# Altium integrated library Capacitor - Ceramic - Sumsung.IntLib: 1421 symbols (part 10 of 22)
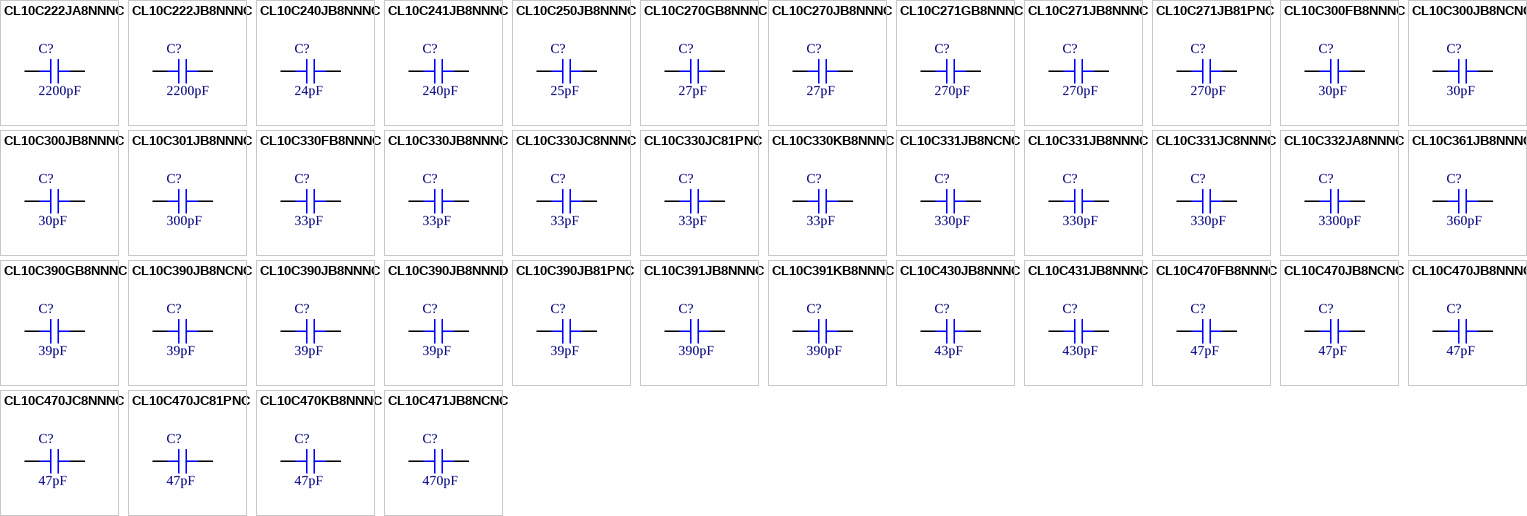
[diagram p44: symbols CL10C222JA8NNNC to CL10C471JB8NCNC]

## CL10C222JA8NNNC
designator C?, comment 2200pF
CAP CER 2200PF 25V NP0 0603; Part Number: CL10C222JA8NNNC; Manufacturer: Samsung Electro-Mechanics America, Inc.; TemperatureRange: -55C ~ 125C; TemperatureCoefficient: C0G, NP0; Tolerance: 5%; Value: 2200pF; PartId: 5563; Supplier 1: Digi-Key; Supplier Part Number 1: 1276-2240-2-ND; ComponentLink1Description: Datasheet; ComponentLink1URL: http://www.samsungsem.com/kr/support/product-search/mlcc/CL10C222JA8NNNC.jsp; ComponentLink2Description: Digi-Key listing; ComponentLink2URL: http://digikey.com/product-detail/en/CL10C222JA8NNNC/1276-2240-2-ND/3887898; Voltage: 25V; Price: 0.0267; Type: -; Device Package: 0603 (1608 Metric)
footprint CAP 0603/1608
pins: 1, 2

## CL10C222JB8NNNC
designator C?, comment 2200pF
CAP CER 2200PF 50V NP0 0603; Part Number: CL10C222JB8NNNC; Manufacturer: Samsung Electro-Mechanics America, Inc.; TemperatureRange: -55C ~ 125C; TemperatureCoefficient: C0G, NP0; Tolerance: 5%; Value: 2200pF; PartId: 13689; Supplier 1: Digi-Key; Supplier Part Number 1: 1276-1760-2-ND; ComponentLink1Description: Datasheet; ComponentLink1URL: http://www.samsungsem.com/kr/support/product-search/mlcc/CL10C222JB8NNNC.jsp; ComponentLink2Description: Digi-Key Listing; ComponentLink2URL: https://www.digikey.com/product-detail/en/samsung-electro-mechanics-america-inc/CL10C222JB8NNNC/1276-1760-2-ND/3887418; Voltage: 50V; Price: 0.018; Device Package: 0603 (1608 Metric)
footprint CAP 0603/1608
pins: 1, 2

## CL10C240JB8NNNC
designator C?, comment 24pF
CAP CER 24PF 50V NP0 0603; Part Number: CL10C240JB8NNNC; Manufacturer: Samsung Electro-Mechanics America, Inc.; TemperatureRange: -55C ~ 125C; TemperatureCoefficient: C0G, NP0; Tolerance: 5%; Value: 24pF; PartId: 5380; Supplier 1: Digi-Key; Supplier Part Number 1: 1276-1761-2-ND; ComponentLink1Description: Datasheet; ComponentLink1URL: http://www.samsungsem.com/kr/support/product-search/mlcc/CL10C240JB8NNNC.jsp; ComponentLink2Description: Digi-Key listing; ComponentLink2URL: http://digikey.com/product-detail/en/CL10C240JB8NNNC/1276-1761-2-ND/3887419; Voltage: 50V; Price: 0.0102; Type: -; Device Package: 0603 (1608 Metric)
footprint CAP 0603/1608
pins: 1, 2

## CL10C241JB8NNNC
designator C?, comment 240pF
CAP CER 240PF 50V NP0 0603; Part Number: CL10C241JB8NNNC; Manufacturer: Samsung Electro-Mechanics America, Inc.; TemperatureRange: -55C ~ 125C; TemperatureCoefficient: C0G, NP0; Tolerance: 5%; Value: 240pF; PartId: 5463; Supplier 1: Digi-Key; Supplier Part Number 1: 1276-2243-2-ND; ComponentLink1Description: Datasheet; ComponentLink1URL: http://www.samsungsem.com/kr/support/product-search/mlcc/CL10C241JB8NNNC.jsp; ComponentLink2Description: Digi-Key listing; ComponentLink2URL: http://digikey.com/product-detail/en/CL10C241JB8NNNC/1276-2243-2-ND/3887901; Voltage: 50V; Price: 0.0163; Type: -; Device Package: 0603 (1608 Metric)
footprint CAP 0603/1608
pins: 1, 2

## CL10C250JB8NNNC
designator C?, comment 25pF
CAP CER 25PF 50V NP0 0603; Part Number: CL10C250JB8NNNC; Manufacturer: Samsung Electro-Mechanics America, Inc.; TemperatureRange: -55C ~ 125C; TemperatureCoefficient: C0G, NP0; Tolerance: 5%; Value: 25pF; PartId: 13481; Supplier 1: Digi-Key; Supplier Part Number 1: 1276-2244-2-ND; ComponentLink1Description: Datasheet; ComponentLink1URL: http://www.samsungsem.com/kr/support/product-search/mlcc/CL10C250JB8NNNC.jsp; ComponentLink2Description: Digi-Key Listing; ComponentLink2URL: https://www.digikey.com/product-detail/en/samsung-electro-mechanics-america-inc/CL10C250JB8NNNC/1276-2244-2-ND/3887902; Voltage: 50V; Price: 0.0023; Device Package: 0603 (1608 Metric)
footprint CAP 0603/1608
pins: 1, 2

## CL10C270GB8NNNC
designator C?, comment 27pF
CAP CER 27PF 50V NP0 0603; Part Number: CL10C270GB8NNNC; Manufacturer: Samsung Electro-Mechanics America, Inc.; TemperatureRange: -55C ~ 125C; TemperatureCoefficient: C0G, NP0; Tolerance: 2%; Value: 27pF; PartId: 5569; Supplier 1: Digi-Key; Supplier Part Number 1: 1276-2246-2-ND; ComponentLink1Description: Datasheet; ComponentLink1URL: http://www.samsungsem.com/kr/support/product-search/mlcc/CL10C270GB8NNNC.jsp; ComponentLink2Description: Digi-Key listing; ComponentLink2URL: http://digikey.com/product-detail/en/CL10C270GB8NNNC/1276-2246-2-ND/3887904; Voltage: 50V; Price: 0.0278; Type: -; Device Package: 0603 (1608 Metric)
footprint CAP 0603/1608
pins: 1, 2

## CL10C270JB8NNNC
designator C?, comment 27pF
CAP CER 27PF 50V NP0 0603; Part Number: CL10C270JB8NNNC; Manufacturer: Samsung Electro-Mechanics America, Inc.; TemperatureRange: -55C ~ 125C; TemperatureCoefficient: C0G, NP0; Tolerance: 5%; Value: 27pF; PartId: 5302; Supplier 1: Digi-Key; Supplier Part Number 1: 1276-1086-2-ND; ComponentLink1Description: Datasheet; ComponentLink1URL: http://www.samsungsem.com/kr/support/product-search/mlcc/CL10C270JB8NNNC.jsp; ComponentLink2Description: Digi-Key listing; ComponentLink2URL: http://digikey.com/product-detail/en/CL10C270JB8NNNC/1276-1086-2-ND/3886744; Voltage: 50V; Price: 0.0077; Type: -; Device Package: 0603 (1608 Metric)
footprint CAP 0603/1608
pins: 1, 2

## CL10C271GB8NNNC
designator C?, comment 270pF
CAP CER 270PF 50V NP0 0603; Part Number: CL10C271GB8NNNC; Manufacturer: Samsung Electro-Mechanics America, Inc.; TemperatureRange: -55C ~ 125C; TemperatureCoefficient: C0G, NP0; Tolerance: 2%; Value: 270pF; PartId: 5629; Supplier 1: Digi-Key; Supplier Part Number 1: 1276-2252-2-ND; ComponentLink1Description: Datasheet; ComponentLink1URL: http://www.samsungsem.com/kr/support/product-search/mlcc/CL10C271GB8NNNC.jsp; ComponentLink2Description: Digi-Key listing; ComponentLink2URL: http://digikey.com/product-detail/en/CL10C271GB8NNNC/1276-2252-2-ND/3887910; Voltage: 50V; Price: 0.039; Type: -; Device Package: 0603 (1608 Metric)
footprint CAP 0603/1608
pins: 1, 2

## CL10C271JB8NNNC
designator C?, comment 270pF
CAP CER 270PF 50V NP0 0603; Part Number: CL10C271JB8NNNC; Manufacturer: Samsung Electro-Mechanics America, Inc.; TemperatureRange: -55C ~ 125C; TemperatureCoefficient: C0G, NP0; Tolerance: 5%; Value: 270pF; PartId: 13205; Supplier 1: Digi-Key; Supplier Part Number 1: 1276-1256-2-ND; ComponentLink1Description: Datasheet; ComponentLink1URL: http://www.samsungsem.com/kr/support/product-search/mlcc/CL10C271JB8NNNC.jsp; ComponentLink2Description: Digi-Key Listing; ComponentLink2URL: https://www.digikey.com/product-detail/en/samsung-electro-mechanics-america-inc/CL10C271JB8NNNC/1276-1256-2-ND/3886914; Voltage: 50V; Price: 0.0092; Device Package: 0603 (1608 Metric)
footprint CAP 0603/1608
pins: 1, 2

## CL10C271JB81PNC
designator C?, comment 270pF
CAP CER 270PF 50V C0G/NP0 0603; Part Number: CL10C271JB81PNC; Manufacturer: Samsung Electro-Mechanics; TemperatureRange: -55C ~ 125C; TemperatureCoefficient: C0G, NP0; Tolerance: 5%; Value: 270pF; PartId: 30703; Supplier 1: Digi-Key; Supplier Part Number 1: 1276-7006-2-ND; ComponentLink1Description: Datasheet; ComponentLink1URL: http://www.samsungsem.com/kr/support/product-search/mlcc/CL10C271JB81PNC.jsp; ComponentLink2Description: Digi-Key Listing; ComponentLink2URL: https://www.digikey.com/product-detail/en/samsung-electro-mechanics/CL10C271JB81PNC/1276-7006-2-ND/7320511; Voltage: 50V; Price: 0; Device Package: 0603 (1608 Metric)
footprint CAP 0603/1608
pins: 1, 2

## CL10C300FB8NNNC
designator C?, comment 30pF
CAP CER 30PF 50V NP0 0603; Part Number: CL10C300FB8NNNC; Manufacturer: Samsung Electro-Mechanics America, Inc.; TemperatureRange: -55C ~ 125C; TemperatureCoefficient: C0G, NP0; Tolerance: 1%; Value: 30pF; PartId: 5496; Supplier 1: Digi-Key; Supplier Part Number 1: 1276-2259-2-ND; ComponentLink1Description: Datasheet; ComponentLink1URL: http://media.digikey.com/pdf/Data%20Sheets/Samsung%20PDFs/CL10C300FB8NNNC_Spec.pdf; ComponentLink2Description: Digi-Key listing; ComponentLink2URL: http://digikey.com/product-detail/en/CL10C300FB8NNNC/1276-2259-2-ND/3887917; Voltage: 50V; Price: 0.0204; Type: -; Device Package: 0603 (1608 Metric)
footprint CAP 0603/1608
pins: 1, 2

## CL10C300JB8NCNC
designator C?, comment 30pF
CAP CER 30PF 50V C0G/NP0 0603; Part Number: CL10C300JB8NCNC; Manufacturer: Samsung Electro-Mechanics; TemperatureRange: -55C ~ 125C; TemperatureCoefficient: C0G, NP0; Tolerance: 5%; Value: 30pF; PartId: 30213; Supplier 1: Digi-Key; Supplier Part Number 1: 1276-2260-2-ND; ComponentLink1Description: Datasheet; ComponentLink1URL: http://www.samsungsem.com/kr/support/product-search/mlcc/CL10C300JB8NCNC.jsp; ComponentLink2Description: Digi-Key Listing; ComponentLink2URL: https://www.digikey.com/product-detail/en/samsung-electro-mechanics/CL10C300JB8NCNC/1276-2260-2-ND/3887918; Voltage: 50V; Price: 0; Device Package: 0603 (1608 Metric)
footprint CAP 0603/1608
pins: 1, 2

## CL10C300JB8NNNC
designator C?, comment 30pF
CAP CER 30PF 50V NP0 0603; Part Number: CL10C300JB8NNNC; Manufacturer: Samsung Electro-Mechanics America, Inc.; TemperatureRange: -55C ~ 125C; TemperatureCoefficient: C0G, NP0; Tolerance: 5%; Value: 30pF; PartId: 5310; Supplier 1: Digi-Key; Supplier Part Number 1: 1276-1021-2-ND; ComponentLink1Description: Datasheet; ComponentLink1URL: http://www.samsungsem.com/kr/support/product-search/mlcc/CL10C300JB8NNNC.jsp; ComponentLink2Description: Digi-Key listing; ComponentLink2URL: http://digikey.com/product-detail/en/CL10C300JB8NNNC/1276-1021-2-ND/3886679; Voltage: 50V; Price: 0.0081; Type: -; Device Package: 0603 (1608 Metric)
footprint CAP 0603/1608
pins: 1, 2

## CL10C301JB8NNNC
designator C?, comment 300pF
CAP CER 300PF 50V NP0 0603; Part Number: CL10C301JB8NNNC; Manufacturer: Samsung Electro-Mechanics America, Inc.; TemperatureRange: -55C ~ 125C; TemperatureCoefficient: C0G, NP0; Tolerance: 5%; Value: 300pF; PartId: 5464; Supplier 1: Digi-Key; Supplier Part Number 1: 1276-2261-2-ND; ComponentLink1Description: Datasheet; ComponentLink1URL: http://www.samsungsem.com/kr/support/product-search/mlcc/CL10C301JB8NNNC.jsp; ComponentLink2Description: Digi-Key listing; ComponentLink2URL: http://digikey.com/product-detail/en/CL10C301JB8NNNC/1276-2261-2-ND/3887919; Voltage: 50V; Price: 0.0163; Type: -; Device Package: 0603 (1608 Metric)
footprint CAP 0603/1608
pins: 1, 2

## CL10C330FB8NNNC
designator C?, comment 33pF
CAP CER 33PF 50V NP0 0603; Part Number: CL10C330FB8NNNC; Manufacturer: Samsung Electro-Mechanics America, Inc.; TemperatureRange: -55C ~ 125C; TemperatureCoefficient: C0G, NP0; Tolerance: 1%; Value: 33pF; PartId: 13679; Supplier 1: Digi-Key; Supplier Part Number 1: 1276-2262-2-ND; ComponentLink1Description: Datasheet; ComponentLink1URL: //media.digikey.com/pdf/Data%20Sheets/Samsung%20PDFs/CL10C330FB8NNNC_Spec.pdf; ComponentLink2Description: Digi-Key Listing; ComponentLink2URL: https://www.digikey.com/product-detail/en/samsung-electro-mechanics-america-inc/CL10C330FB8NNNC/1276-2262-2-ND/3887920; Voltage: 50V; Price: 0.0238; Device Package: 0603 (1608 Metric)
footprint CAP 0603/1608
pins: 1, 2

## CL10C330JB8NNNC
designator C?, comment 33pF
CAP CER 33PF 50V NP0 0603; Part Number: CL10C330JB8NNNC; Manufacturer: Samsung Electro-Mechanics America, Inc.; TemperatureRange: -55C ~ 125C; TemperatureCoefficient: C0G, NP0; Tolerance: 5%; Value: 33pF; PartId: 5291; Supplier 1: Digi-Key; Supplier Part Number 1: 1276-1070-2-ND; ComponentLink1Description: Datasheet; ComponentLink1URL: http://www.samsungsem.com/kr/support/product-search/mlcc/CL10C330JB8NNNC.jsp; ComponentLink2Description: Digi-Key listing; ComponentLink2URL: http://digikey.com/product-detail/en/CL10C330JB8NNNC/1276-1070-2-ND/3886728; Voltage: 50V; Price: 0.0075; Type: -; Device Package: 0603 (1608 Metric)
footprint CAP 0603/1608
pins: 1, 2

## CL10C330JC8NNNC
designator C?, comment 33pF
CAP CER 33PF 100V NP0 0603; Part Number: CL10C330JC8NNNC; Manufacturer: Samsung Electro-Mechanics America, Inc.; TemperatureRange: -55C ~ 125C; TemperatureCoefficient: C0G, NP0; Tolerance: 5%; Value: 33pF; PartId: 5295; Supplier 1: Digi-Key; Supplier Part Number 1: 1276-2267-2-ND; ComponentLink1Description: Datasheet; ComponentLink1URL: http://www.samsungsem.com/kr/support/product-search/mlcc/CL10C330JC8NNNC.jsp; ComponentLink2Description: Digi-Key listing; ComponentLink2URL: http://digikey.com/product-detail/en/CL10C330JC8NNNC/1276-2267-2-ND/3887925; Voltage: 100V; Price: 0.0076; Type: -; Device Package: 0603 (1608 Metric)
footprint CAP 0603/1608
pins: 1, 2

## CL10C330JC81PNC
designator C?, comment 33pF
CAP CER 33PF 100V C0G/NP0 0603; Part Number: CL10C330JC81PNC; Manufacturer: Samsung Electro-Mechanics; TemperatureRange: -55C ~ 125C; TemperatureCoefficient: C0G, NP0; Tolerance: 5%; Value: 33pF; PartId: 30538; Supplier 1: Digi-Key; Supplier Part Number 1: 1276-6857-2-ND; ComponentLink1Description: Datasheet; ComponentLink1URL: http://www.samsungsem.com/kr/support/product-search/mlcc/CL10C330JC81PNC.jsp; ComponentLink2Description: Digi-Key Listing; ComponentLink2URL: https://www.digikey.com/product-detail/en/samsung-electro-mechanics/CL10C330JC81PNC/1276-6857-2-ND/5961341; Voltage: 100V; Price: 0; Device Package: 0603 (1608 Metric)
footprint CAP 0603/1608
pins: 1, 2

## CL10C330KB8NNNC
designator C?, comment 33pF
CAP CER 33PF 50V NP0 0603; Part Number: CL10C330KB8NNNC; Manufacturer: Samsung Electro-Mechanics America, Inc.; TemperatureRange: -55C ~ 125C; TemperatureCoefficient: C0G, NP0; Tolerance: 10%; Value: 33pF; PartId: 5292; Supplier 1: Digi-Key; Supplier Part Number 1: 1276-2268-2-ND; ComponentLink1Description: Datasheet; ComponentLink1URL: http://www.samsungsem.com/kr/support/product-search/mlcc/CL10C330KB8NNNC.jsp; ComponentLink2Description: Digi-Key listing; ComponentLink2URL: http://digikey.com/product-detail/en/CL10C330KB8NNNC/1276-2268-2-ND/3887926; Voltage: 50V; Price: 0.0075; Type: -; Device Package: 0603 (1608 Metric)
footprint CAP 0603/1608
pins: 1, 2

## CL10C331JB8NCNC
designator C?, comment 330pF
CAP CER 330PF 50V NP0 0603; Part Number: CL10C331JB8NCNC; Manufacturer: Samsung Electro-Mechanics America, Inc.; TemperatureRange: -55C ~ 125C; TemperatureCoefficient: C0G, NP0; Tolerance: 5%; Value: 330pF; PartId: 5408; Supplier 1: Digi-Key; Supplier Part Number 1: 1276-2272-2-ND; ComponentLink1Description: Datasheet; ComponentLink1URL: http://media.digikey.com/pdf/Data%20Sheets/Samsung%20PDFs/CL10C331JB8NCNC_Spec.pdf; ComponentLink2Description: Digi-Key listing; ComponentLink2URL: http://digikey.com/product-detail/en/CL10C331JB8NCNC/1276-2272-2-ND/3887930; Voltage: 50V; Price: 0.0122; Type: -; Device Package: 0603 (1608 Metric)
footprint CAP 0603/1608
pins: 1, 2

## CL10C331JB8NNNC
designator C?, comment 330pF
CAP CER 330PF 50V NP0 0603; Part Number: CL10C331JB8NNNC; Manufacturer: Samsung Electro-Mechanics America, Inc.; TemperatureRange: -55C ~ 125C; TemperatureCoefficient: C0G, NP0; Tolerance: 5%; Value: 330pF; PartId: 13285; Supplier 1: Digi-Key; Supplier Part Number 1: 1276-1073-2-ND; ComponentLink1Description: Datasheet; ComponentLink1URL: http://www.samsungsem.com/kr/support/product-search/mlcc/CL10C331JB8NNNC.jsp; ComponentLink2Description: Digi-Key Listing; ComponentLink2URL: https://www.digikey.com/product-detail/en/samsung-electro-mechanics-america-inc/CL10C331JB8NNNC/1276-1073-2-ND/3886731; Voltage: 50V; Price: 0.0094; Device Package: 0603 (1608 Metric)
footprint CAP 0603/1608
pins: 1, 2

## CL10C331JC8NNNC
designator C?, comment 330pF
CAP CER 330PF 100V NP0 0603; Part Number: CL10C331JC8NNNC; Manufacturer: Samsung Electro-Mechanics America, Inc.; TemperatureRange: -55C ~ 125C; TemperatureCoefficient: C0G, NP0; Tolerance: 5%; Value: 330pF; PartId: 5494; Supplier 1: Digi-Key; Supplier Part Number 1: 1276-2274-2-ND; ComponentLink1Description: Datasheet; ComponentLink1URL: http://www.samsungsem.com/kr/support/product-search/mlcc/CL10C331JC8NNNC.jsp; ComponentLink2Description: Digi-Key listing; ComponentLink2URL: http://digikey.com/product-detail/en/CL10C331JC8NNNC/1276-2274-2-ND/3887932; Voltage: 100V; Price: 0.0201; Type: -; Device Package: 0603 (1608 Metric)
footprint CAP 0603/1608
pins: 1, 2

## CL10C332JA8NNNC
designator C?, comment 3300pF
CAP CER 3300PF 25V NP0 0603; Part Number: CL10C332JA8NNNC; Manufacturer: Samsung Electro-Mechanics America, Inc.; TemperatureRange: -55C ~ 125C; TemperatureCoefficient: C0G, NP0; Tolerance: 5%; Value: 3300pF; PartId: 5635; Supplier 1: Digi-Key; Supplier Part Number 1: 1276-2275-2-ND; ComponentLink1Description: Datasheet; ComponentLink1URL: http://www.samsungsem.com/kr/support/product-search/mlcc/CL10C332JA8NNNC.jsp; ComponentLink2Description: Digi-Key listing; ComponentLink2URL: http://digikey.com/product-detail/en/CL10C332JA8NNNC/1276-2275-2-ND/3887933; Voltage: 25V; Price: 0.0407; Type: -; Device Package: 0603 (1608 Metric)
footprint CAP 0603/1608
pins: 1, 2

## CL10C361JB8NNNC
designator C?, comment 360pF
CAP CER 360PF 50V C0G/NP0 0603; Part Number: CL10C361JB8NNNC; Manufacturer: Samsung Electro-Mechanics; TemperatureRange: -55C ~ 125C; TemperatureCoefficient: C0G, NP0; Tolerance: 5%; Value: 360pF; PartId: 30500; Supplier 1: Digi-Key; Supplier Part Number 1: 1276-2279-2-ND; ComponentLink1Description: Datasheet; ComponentLink1URL: http://www.samsungsem.com/kr/support/product-search/mlcc/CL10C361JB8NNNC.jsp; ComponentLink2Description: Digi-Key Listing; ComponentLink2URL: https://www.digikey.com/product-detail/en/samsung-electro-mechanics/CL10C361JB8NNNC/1276-2279-2-ND/3887937; Voltage: 50V; Price: 0; Device Package: 0603 (1608 Metric)
footprint CAP 0603/1608
pins: 1, 2

## CL10C390GB8NNNC
designator C?, comment 39pF
CAP CER 39PF 50V NP0 0603; Part Number: CL10C390GB8NNNC; Manufacturer: Samsung Electro-Mechanics America, Inc.; TemperatureRange: -55C ~ 125C; TemperatureCoefficient: C0G, NP0; Tolerance: 2%; Value: 39pF; PartId: 5570; Supplier 1: Digi-Key; Supplier Part Number 1: 1276-2281-2-ND; ComponentLink1Description: Datasheet; ComponentLink1URL: http://www.samsungsem.com/kr/support/product-search/mlcc/CL10C390GB8NNNC.jsp; ComponentLink2Description: Digi-Key listing; ComponentLink2URL: http://digikey.com/product-detail/en/CL10C390GB8NNNC/1276-2281-2-ND/3887939; Voltage: 50V; Price: 0.0278; Type: -; Device Package: 0603 (1608 Metric)
footprint CAP 0603/1608
pins: 1, 2

## CL10C390JB8NCNC
designator C?, comment 39pF
CAP CER 39PF 50V C0G/NP0 0603; Part Number: CL10C390JB8NCNC; Manufacturer: Samsung Electro-Mechanics; TemperatureRange: -55C ~ 125C; TemperatureCoefficient: C0G, NP0; Tolerance: 5%; Value: 39pF; PartId: 30212; Supplier 1: Digi-Key; Supplier Part Number 1: 1276-2283-2-ND; ComponentLink1Description: Datasheet; ComponentLink1URL: http://www.samsungsem.com/kr/support/product-search/mlcc/CL10C390JB8NCNC.jsp; ComponentLink2Description: Digi-Key Listing; ComponentLink2URL: https://www.digikey.com/product-detail/en/samsung-electro-mechanics/CL10C390JB8NCNC/1276-2283-2-ND/3887941; Voltage: 50V; Price: 0; Device Package: 0603 (1608 Metric)
footprint CAP 0603/1608
pins: 1, 2

## CL10C390JB8NNNC
designator C?, comment 39pF
CAP CER 39PF 50V NP0 0603; Part Number: CL10C390JB8NNNC; Manufacturer: Samsung Electro-Mechanics America, Inc.; TemperatureRange: -55C ~ 125C; TemperatureCoefficient: C0G, NP0; Tolerance: 5%; Value: 39pF; PartId: 5296; Supplier 1: Digi-Key; Supplier Part Number 1: 1276-1087-2-ND; ComponentLink1Description: Datasheet; ComponentLink1URL: http://www.samsungsem.com/kr/support/product-search/mlcc/CL10C390JB8NNNC.jsp; ComponentLink2Description: Digi-Key listing; ComponentLink2URL: http://digikey.com/product-detail/en/CL10C390JB8NNNC/1276-1087-2-ND/3886745; Voltage: 50V; Price: 0.0076; Type: -; Device Package: 0603 (1608 Metric)
footprint CAP 0603/1608
pins: 1, 2

## CL10C390JB8NNND
designator C?, comment 39pF
CAP CER 39PF 50V NP0 0603; Part Number: CL10C390JB8NNND; Manufacturer: Samsung Electro-Mechanics; TemperatureRange: -55C ~ 125C; TemperatureCoefficient: C0G, NP0; Tolerance: 5%; Value: 39pF; PartId: 30200; Supplier 1: Digi-Key; Supplier Part Number 1: CL10C390JB8NNND-ND; ComponentLink1Description: Datasheet; ComponentLink1URL: http://www.samsungsem.com/kr/support/product-search/mlcc/CL10C390JB8NNND.jsp; ComponentLink2Description: Digi-Key Listing; ComponentLink2URL: https://www.digikey.com/product-detail/en/samsung-electro-mechanics/CL10C390JB8NNND/CL10C390JB8NNND-ND/3894370; Voltage: 50V; Price: 0; Device Package: 0603 (1608 Metric)
footprint CAP 0603/1608
pins: 1, 2

## CL10C390JB81PNC
designator C?, comment 39pF
CAP CER 39PF 50V C0G/NP0 0603; Part Number: CL10C390JB81PNC; Manufacturer: Samsung Electro-Mechanics; TemperatureRange: -55C ~ 125C; TemperatureCoefficient: C0G, NP0; Tolerance: 5%; Value: 39pF; PartId: 30384; Supplier 1: Digi-Key; Supplier Part Number 1: 1276-2282-2-ND; ComponentLink1Description: Datasheet; ComponentLink1URL: http://www.samsungsem.com/kr/support/product-search/mlcc/CL10C390JB81PNC.jsp; ComponentLink2Description: Digi-Key Listing; ComponentLink2URL: https://www.digikey.com/product-detail/en/samsung-electro-mechanics/CL10C390JB81PNC/1276-2282-2-ND/3887940; Voltage: 50V; Price: 0; Device Package: 0603 (1608 Metric)
footprint CAP 0603/1608
pins: 1, 2

## CL10C391JB8NNNC
designator C?, comment 390pF
CAP CER 390PF 50V NP0 0603; Part Number: CL10C391JB8NNNC; Manufacturer: Samsung Electro-Mechanics America, Inc.; TemperatureRange: -55C ~ 125C; TemperatureCoefficient: C0G, NP0; Tolerance: 5%; Value: 390pF; PartId: 5487; Supplier 1: Digi-Key; Supplier Part Number 1: 1276-1297-2-ND; ComponentLink1Description: Datasheet; ComponentLink1URL: http://www.samsungsem.com/kr/support/product-search/mlcc/CL10C391JB8NNNC.jsp; ComponentLink2Description: Digi-Key listing; ComponentLink2URL: http://digikey.com/product-detail/en/CL10C391JB8NNNC/1276-1297-2-ND/3886955; Voltage: 50V; Price: 0.0188; Type: -; Device Package: 0603 (1608 Metric)
footprint CAP 0603/1608
pins: 1, 2

## CL10C391KB8NNNC
designator C?, comment 390pF
CAP CER 390PF 50V NP0 0603; Part Number: CL10C391KB8NNNC; Manufacturer: Samsung Electro-Mechanics America, Inc.; TemperatureRange: -55C ~ 125C; TemperatureCoefficient: C0G, NP0; Tolerance: 10%; Value: 390pF; PartId: 5490; Supplier 1: Digi-Key; Supplier Part Number 1: 1276-2286-2-ND; ComponentLink1Description: Datasheet; ComponentLink1URL: http://www.samsungsem.com/kr/support/product-search/mlcc/CL10C391KB8NNNC.jsp; ComponentLink2Description: Digi-Key listing; ComponentLink2URL: http://digikey.com/product-detail/en/CL10C391KB8NNNC/1276-2286-2-ND/3887944; Voltage: 50V; Price: 0.0188; Type: -; Device Package: 0603 (1608 Metric)
footprint CAP 0603/1608
pins: 1, 2

## CL10C430JB8NNNC
designator C?, comment 43pF
CAP CER 43PF 50V C0G/NP0 0603; Part Number: CL10C430JB8NNNC; Manufacturer: Samsung Electro-Mechanics; TemperatureRange: -55C ~ 125C; TemperatureCoefficient: C0G, NP0; Tolerance: 5%; Value: 43pF; PartId: 30227; Supplier 1: Digi-Key; Supplier Part Number 1: 1276-2290-2-ND; ComponentLink1Description: Datasheet; ComponentLink1URL: http://www.samsungsem.com/kr/support/product-search/mlcc/CL10C430JB8NNNC.jsp; ComponentLink2Description: Digi-Key Listing; ComponentLink2URL: https://www.digikey.com/product-detail/en/samsung-electro-mechanics/CL10C430JB8NNNC/1276-2290-2-ND/3887948; Voltage: 50V; Price: 0; Device Package: 0603 (1608 Metric)
footprint CAP 0603/1608
pins: 1, 2

## CL10C431JB8NNNC
designator C?, comment 430pF
CAP CER 430PF 50V NP0 0603; Part Number: CL10C431JB8NNNC; Manufacturer: Samsung Electro-Mechanics America, Inc.; TemperatureRange: -55C ~ 125C; TemperatureCoefficient: C0G, NP0; Tolerance: 5%; Value: 430pF; PartId: 5528; Supplier 1: Digi-Key; Supplier Part Number 1: 1276-2291-2-ND; ComponentLink1Description: Datasheet; ComponentLink1URL: http://www.samsungsem.com/kr/support/product-search/mlcc/CL10C431JB8NNNC.jsp; ComponentLink2Description: Digi-Key listing; ComponentLink2URL: http://digikey.com/product-detail/en/CL10C431JB8NNNC/1276-2291-2-ND/3887949; Voltage: 50V; Price: 0.0235; Type: -; Device Package: 0603 (1608 Metric)
footprint CAP 0603/1608
pins: 1, 2

## CL10C470FB8NNNC
designator C?, comment 47pF
CAP CER 47PF 50V C0G/NP0 0603; Part Number: CL10C470FB8NNNC; Manufacturer: Samsung Electro-Mechanics; TemperatureRange: -55C ~ 125C; TemperatureCoefficient: C0G, NP0; Tolerance: 1%; Value: 47pF; PartId: 30711; Supplier 1: Digi-Key; Supplier Part Number 1: 1276-2293-2-ND; ComponentLink1Description: Datasheet; ComponentLink1URL: http://www.samsungsem.com/kr/support/product-search/mlcc/CL10C470FB8NNNC.jsp; ComponentLink2Description: Digi-Key Listing; ComponentLink2URL: https://www.digikey.com/product-detail/en/samsung-electro-mechanics/CL10C470FB8NNNC/1276-2293-2-ND/3887951; Voltage: 50V; Price: 0; Device Package: 0603 (1608 Metric)
footprint CAP 0603/1608
pins: 1, 2

## CL10C470JB8NCNC
designator C?, comment 47pF
CAP CER 47PF 50V NP0 0603; Part Number: CL10C470JB8NCNC; Manufacturer: Samsung Electro-Mechanics America, Inc.; TemperatureRange: -55C ~ 125C; TemperatureCoefficient: C0G, NP0; Tolerance: 5%; Value: 47pF; PartId: 13183; Supplier 1: Digi-Key; Supplier Part Number 1: 1276-2296-2-ND; ComponentLink1Description: Datasheet; ComponentLink1URL: //media.digikey.com/pdf/Data%20Sheets/Samsung%20PDFs/CL10C470JB8NCNC_Spec.pdf; ComponentLink2Description: Digi-Key Listing; ComponentLink2URL: https://www.digikey.com/product-detail/en/samsung-electro-mechanics-america-inc/CL10C470JB8NCNC/1276-2296-2-ND/3887954; Voltage: 50V; Price: 0.0052; Device Package: 0603 (1608 Metric)
footprint CAP 0603/1608
pins: 1, 2

## CL10C470JB8NNNC
designator C?, comment 47pF
CAP CER 47PF 50V NP0 0603; Part Number: CL10C470JB8NNNC; Manufacturer: Samsung Electro-Mechanics America, Inc.; TemperatureRange: -55C ~ 125C; TemperatureCoefficient: C0G, NP0; Tolerance: 5%; Value: 47pF; PartId: 5289; Supplier 1: Digi-Key; Supplier Part Number 1: 1276-1037-2-ND; ComponentLink1Description: Datasheet; ComponentLink1URL: http://www.samsungsem.com/kr/support/product-search/mlcc/CL10C470JB8NNNC.jsp; ComponentLink2Description: Digi-Key listing; ComponentLink2URL: http://digikey.com/product-detail/en/CL10C470JB8NNNC/1276-1037-2-ND/3886695; Voltage: 50V; Price: 0.0075; Type: -; Device Package: 0603 (1608 Metric)
footprint CAP 0603/1608
pins: 1, 2

## CL10C470JC8NNNC
designator C?, comment 47pF
CAP CER 47PF 100V NP0 0603; Part Number: CL10C470JC8NNNC; Manufacturer: Samsung Electro-Mechanics America, Inc.; TemperatureRange: -55C ~ 125C; TemperatureCoefficient: C0G, NP0; Tolerance: 5%; Value: 47pF; PartId: 5398; Supplier 1: Digi-Key; Supplier Part Number 1: 1276-2299-2-ND; ComponentLink1Description: Datasheet; ComponentLink1URL: http://www.samsungsem.com/kr/support/product-search/mlcc/CL10C470JC8NNNC.jsp; ComponentLink2Description: Digi-Key listing; ComponentLink2URL: http://digikey.com/product-detail/en/CL10C470JC8NNNC/1276-2299-2-ND/3887957; Voltage: 100V; Price: 0.0112; Type: -; Device Package: 0603 (1608 Metric)
footprint CAP 0603/1608
pins: 1, 2

## CL10C470JC81PNC
designator C?, comment 47pF
CAP CER 47PF 100V C0G/NP0 0603; Part Number: CL10C470JC81PNC; Manufacturer: Samsung Electro-Mechanics; TemperatureRange: -55C ~ 125C; TemperatureCoefficient: C0G, NP0; Tolerance: 5%; Value: 47pF; PartId: 30537; Supplier 1: Digi-Key; Supplier Part Number 1: 1276-6563-2-ND; ComponentLink1Description: Datasheet; ComponentLink1URL: http://www.samsungsem.com/kr/support/product-search/mlcc/CL10C470JC81PNC.jsp; ComponentLink2Description: Digi-Key Listing; ComponentLink2URL: https://www.digikey.com/product-detail/en/samsung-electro-mechanics/CL10C470JC81PNC/1276-6563-2-ND/5961047; Voltage: 100V; Price: 0; Device Package: 0603 (1608 Metric)
footprint CAP 0603/1608
pins: 1, 2

## CL10C470KB8NNNC
designator C?, comment 47pF
CAP CER 47PF 50V NP0 0603; Part Number: CL10C470KB8NNNC; Manufacturer: Samsung Electro-Mechanics America, Inc.; TemperatureRange: -55C ~ 125C; TemperatureCoefficient: C0G, NP0; Tolerance: 10%; Value: 47pF; PartId: 5293; Supplier 1: Digi-Key; Supplier Part Number 1: 1276-2300-2-ND; ComponentLink1Description: Datasheet; ComponentLink1URL: http://www.samsungsem.com/kr/support/product-search/mlcc/CL10C470KB8NNNC.jsp; ComponentLink2Description: Digi-Key listing; ComponentLink2URL: http://digikey.com/product-detail/en/CL10C470KB8NNNC/1276-2300-2-ND/3887958; Voltage: 50V; Price: 0.0075; Type: -; Device Package: 0603 (1608 Metric)
footprint CAP 0603/1608
pins: 1, 2

## CL10C471JB8NCNC
designator C?, comment 470pF
CAP CER 470PF 50V NP0 0603; Part Number: CL10C471JB8NCNC; Manufacturer: Samsung Electro-Mechanics America, Inc.; TemperatureRange: -55C ~ 125C; TemperatureCoefficient: C0G, NP0; Tolerance: 5%; Value: 470pF; PartId: 5332; Supplier 1: Digi-Key; Supplier Part Number 1: 1276-2302-2-ND; ComponentLink1Description: Datasheet; ComponentLink1URL: http://media.digikey.com/pdf/Data%20Sheets/Samsung%20PDFs/CL10C471JB8NCNC_Spec.pdf; ComponentLink2Description: Digi-Key listing; ComponentLink2URL: http://digikey.com/product-detail/en/CL10C471JB8NCNC/1276-2302-2-ND/3887960; Voltage: 50V; Price: 0.0093; Type: -; Device Package: 0603 (1608 Metric)
footprint CAP 0603/1608
pins: 1, 2

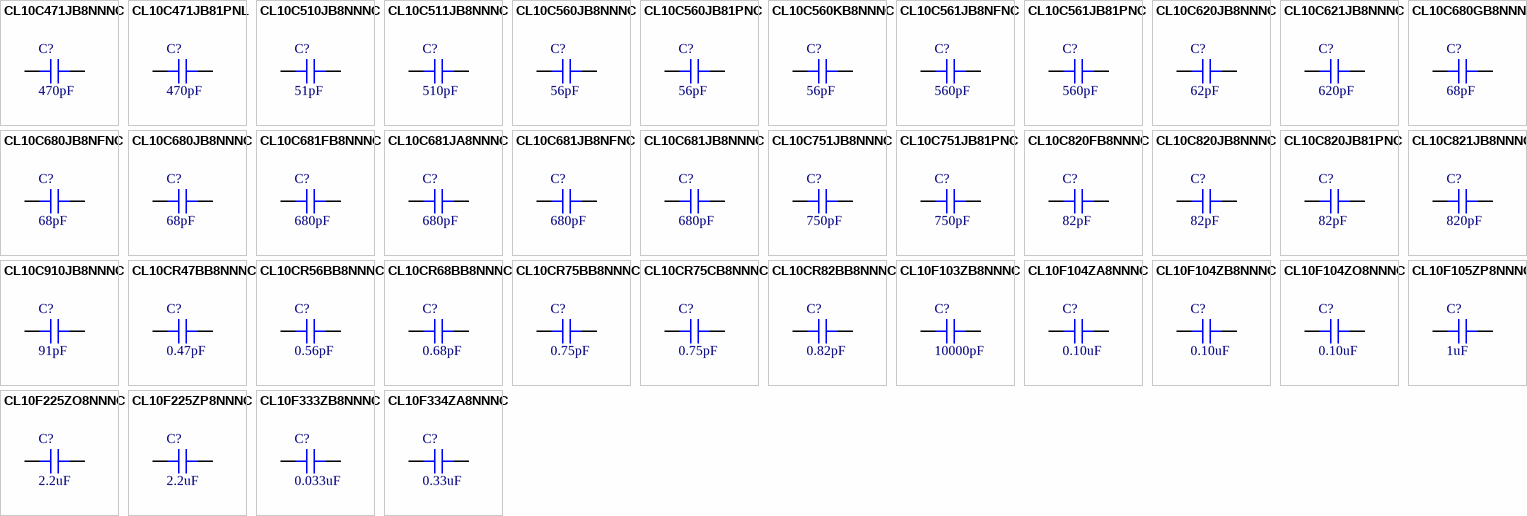
[diagram p16: symbols CL10C471JB8NNNC to CL10F334ZA8NNNC]

## CL10C471JB8NNNC
designator C?, comment 470pF
CAP CER 470PF 50V NP0 0603; Part Number: CL10C471JB8NNNC; Manufacturer: Samsung Electro-Mechanics America, Inc.; TemperatureRange: -55C ~ 125C; TemperatureCoefficient: C0G, NP0; Tolerance: 5%; Value: 470pF; PartId: 13033; Supplier 1: Digi-Key; Supplier Part Number 1: 1276-1168-2-ND; ComponentLink1Description: Datasheet; ComponentLink1URL: http://www.samsungsem.com/kr/support/product-search/mlcc/CL10C471JB8NNNC.jsp; ComponentLink2Description: Digi-Key Listing; ComponentLink2URL: https://www.digikey.com/product-detail/en/samsung-electro-mechanics-america-inc/CL10C471JB8NNNC/1276-1168-2-ND/3886826; Voltage: 50V; Price: 0.0065; Device Package: 0603 (1608 Metric)
footprint CAP 0603/1608
pins: 1, 2

## CL10C471JB81PNL
designator C?, comment 470pF
CAP CER 470PF 50V C0G/NP0 0603; Part Number: CL10C471JB81PNL; Manufacturer: Samsung Electro-Mechanics; TemperatureRange: -55C ~ 125C; TemperatureCoefficient: C0G, NP0; Tolerance: 5%; Value: 470pF; PartId: 30503; Supplier 1: Digi-Key; Supplier Part Number 1: 1276-6453-2-ND; ComponentLink1Description: Datasheet; ComponentLink1URL: http://www.samsungsem.com/kr/support/product-search/mlcc/CL10C471JB81PNL.jsp; ComponentLink2Description: Digi-Key Listing; ComponentLink2URL: https://www.digikey.com/product-detail/en/samsung-electro-mechanics/CL10C471JB81PNL/1276-6453-2-ND/3894378; Voltage: 50V; Price: 0; Device Package: 0603 (1608 Metric)
footprint CAP 0603/1608
pins: 1, 2

## CL10C510JB8NNNC
designator C?, comment 51pF
CAP CER 51PF 50V NP0 0603; Part Number: CL10C510JB8NNNC; Manufacturer: Samsung Electro-Mechanics America, Inc.; TemperatureRange: -55C ~ 125C; TemperatureCoefficient: C0G, NP0; Tolerance: 5%; Value: 51pF; PartId: 5372; Supplier 1: Digi-Key; Supplier Part Number 1: 1276-2310-2-ND; ComponentLink1Description: Datasheet; ComponentLink1URL: http://www.samsungsem.com/kr/support/product-search/mlcc/CL10C510JB8NNNC.jsp; ComponentLink2Description: Digi-Key listing; ComponentLink2URL: http://digikey.com/product-detail/en/CL10C510JB8NNNC/1276-2310-2-ND/3887968; Voltage: 50V; Price: 0.0102; Type: -; Device Package: 0603 (1608 Metric)
footprint CAP 0603/1608
pins: 1, 2

## CL10C511JB8NNNC
designator C?, comment 510pF
CAP CER 510PF 50V NP0 0603; Part Number: CL10C511JB8NNNC; Manufacturer: Samsung Electro-Mechanics America, Inc.; TemperatureRange: -55C ~ 125C; TemperatureCoefficient: C0G, NP0; Tolerance: 5%; Value: 510pF; PartId: 5586; Supplier 1: Digi-Key; Supplier Part Number 1: 1276-2311-2-ND; ComponentLink1Description: Datasheet; ComponentLink1URL: http://www.samsungsem.com/kr/support/product-search/mlcc/CL10C511JB8NNNC.jsp; ComponentLink2Description: Digi-Key listing; ComponentLink2URL: http://digikey.com/product-detail/en/CL10C511JB8NNNC/1276-2311-2-ND/3887969; Voltage: 50V; Price: 0.0305; Type: -; Device Package: 0603 (1608 Metric)
footprint CAP 0603/1608
pins: 1, 2

## CL10C560JB8NNNC
designator C?, comment 56pF
CAP CER 56PF 50V NP0 0603; Part Number: CL10C560JB8NNNC; Manufacturer: Samsung Electro-Mechanics America, Inc.; TemperatureRange: -55C ~ 125C; TemperatureCoefficient: C0G, NP0; Tolerance: 5%; Value: 56pF; PartId: 5317; Supplier 1: Digi-Key; Supplier Part Number 1: 1276-1197-2-ND; ComponentLink1Description: Datasheet; ComponentLink1URL: http://www.samsungsem.com/kr/support/product-search/mlcc/CL10C560JB8NNNC.jsp; ComponentLink2Description: Digi-Key listing; ComponentLink2URL: http://digikey.com/product-detail/en/CL10C560JB8NNNC/1276-1197-2-ND/3886855; Voltage: 50V; Price: 0.0083; Type: -; Device Package: 0603 (1608 Metric)
footprint CAP 0603/1608
pins: 1, 2

## CL10C560JB81PNC
designator C?, comment 56pF
CAP CER 56PF 50V C0G/NP0 0603; Part Number: CL10C560JB81PNC; Manufacturer: Samsung Electro-Mechanics; TemperatureRange: -55C ~ 125C; TemperatureCoefficient: C0G, NP0; Tolerance: 5%; Value: 56pF; PartId: 30360; Supplier 1: Digi-Key; Supplier Part Number 1: 1276-6537-2-ND; ComponentLink1Description: Datasheet; ComponentLink1URL: http://www.samsungsem.com/kr/support/product-search/mlcc/CL10C560JB81PNC.jsp; ComponentLink2Description: Digi-Key Listing; ComponentLink2URL: https://www.digikey.com/product-detail/en/samsung-electro-mechanics/CL10C560JB81PNC/1276-6537-2-ND/5961021; Voltage: 50V; Price: 0; Device Package: 0603 (1608 Metric)
footprint CAP 0603/1608
pins: 1, 2

## CL10C560KB8NNNC
designator C?, comment 56pF
CAP CER 56PF 50V NP0 0603; Part Number: CL10C560KB8NNNC; Manufacturer: Samsung Electro-Mechanics America, Inc.; TemperatureRange: -55C ~ 125C; TemperatureCoefficient: C0G, NP0; Tolerance: 10%; Value: 56pF; PartId: 5315; Supplier 1: Digi-Key; Supplier Part Number 1: 1276-2314-2-ND; ComponentLink1Description: Datasheet; ComponentLink1URL: http://www.samsungsem.com/kr/support/product-search/mlcc/CL10C560KB8NNNC.jsp; ComponentLink2Description: Digi-Key listing; ComponentLink2URL: http://digikey.com/product-detail/en/CL10C560KB8NNNC/1276-2314-2-ND/3887972; Voltage: 50V; Price: 0.0081; Type: -; Device Package: 0603 (1608 Metric)
footprint CAP 0603/1608
pins: 1, 2

## CL10C561JB8NFNC
designator C?, comment 560pF
CAP CER 560PF 50V NP0 0603; Part Number: CL10C561JB8NFNC; Manufacturer: Samsung Electro-Mechanics America, Inc.; TemperatureRange: -55C ~ 125C; TemperatureCoefficient: C0G, NP0; Tolerance: 5%; Value: 560pF; PartId: 5475; Supplier 1: Digi-Key; Supplier Part Number 1: 1276-2315-2-ND; ComponentLink1Description: Datasheet; ComponentLink1URL: http://www.samsungsem.com/kr/support/product-search/mlcc/CL10C561JB8NFNC.jsp; ComponentLink2Description: Digi-Key listing; ComponentLink2URL: http://digikey.com/product-detail/en/CL10C561JB8NFNC/1276-2315-2-ND/3887973; Voltage: 50V; Price: 0.0168; Type: -; Device Package: 0603 (1608 Metric)
footprint CAP 0603/1608
pins: 1, 2

## CL10C561JB81PNC
designator C?, comment 560pF
CAP CER 560PF 50V C0G/NP0 0603; Part Number: CL10C561JB81PNC; Manufacturer: Samsung Electro-Mechanics; TemperatureRange: -55C ~ 125C; TemperatureCoefficient: C0G, NP0; Tolerance: 5%; Value: 560pF; PartId: 30685; Supplier 1: Digi-Key; Supplier Part Number 1: 1276-6516-2-ND; ComponentLink1Description: Datasheet; ComponentLink1URL: http://www.samsungsem.com/kr/support/product-search/mlcc/CL10C561JB81PNC.jsp; ComponentLink2Description: Digi-Key Listing; ComponentLink2URL: https://www.digikey.com/product-detail/en/samsung-electro-mechanics/CL10C561JB81PNC/1276-6516-2-ND/5961000; Voltage: 50V; Price: 0; Device Package: 0603 (1608 Metric)
footprint CAP 0603/1608
pins: 1, 2

## CL10C620JB8NNNC
designator C?, comment 62pF
CAP CER 62PF 50V C0G/NP0 0603; Part Number: CL10C620JB8NNNC; Manufacturer: Samsung Electro-Mechanics; TemperatureRange: -55C ~ 125C; TemperatureCoefficient: C0G, NP0; Tolerance: 5%; Value: 62pF; PartId: 30243; Supplier 1: Digi-Key; Supplier Part Number 1: 1276-2320-2-ND; ComponentLink1Description: Datasheet; ComponentLink1URL: http://www.samsungsem.com/kr/support/product-search/mlcc/CL10C620JB8NNNC.jsp; ComponentLink2Description: Digi-Key Listing; ComponentLink2URL: https://www.digikey.com/product-detail/en/samsung-electro-mechanics/CL10C620JB8NNNC/1276-2320-2-ND/3887978; Voltage: 50V; Price: 0; Device Package: 0603 (1608 Metric)
footprint CAP 0603/1608
pins: 1, 2

## CL10C621JB8NNNC
designator C?, comment 620pF
CAP CER 620PF 50V C0G/NP0 0603; Part Number: CL10C621JB8NNNC; Manufacturer: Samsung Electro-Mechanics; TemperatureRange: -55C ~ 125C; TemperatureCoefficient: C0G, NP0; Tolerance: 5%; Value: 620pF; PartId: 30698; Supplier 1: Digi-Key; Supplier Part Number 1: 1276-2321-2-ND; ComponentLink1Description: Datasheet; ComponentLink1URL: http://www.samsungsem.com/kr/support/product-search/mlcc/CL10C621JB8NNNC.jsp; ComponentLink2Description: Digi-Key Listing; ComponentLink2URL: https://www.digikey.com/product-detail/en/samsung-electro-mechanics/CL10C621JB8NNNC/1276-2321-2-ND/3887979; Voltage: 50V; Price: 0; Device Package: 0603 (1608 Metric)
footprint CAP 0603/1608
pins: 1, 2

## CL10C680GB8NNNC
designator C?, comment 68pF
CAP CER 68PF 50V C0G/NP0 0603; Part Number: CL10C680GB8NNNC; Manufacturer: Samsung Electro-Mechanics; TemperatureRange: -55C ~ 125C; TemperatureCoefficient: C0G, NP0; Tolerance: 2%; Value: 68pF; PartId: 30714; Supplier 1: Digi-Key; Supplier Part Number 1: 1276-2323-2-ND; ComponentLink1Description: Datasheet; ComponentLink1URL: http://www.samsungsem.com/kr/support/product-search/mlcc/CL10C680GB8NNNC.jsp; ComponentLink2Description: Digi-Key Listing; ComponentLink2URL: https://www.digikey.com/product-detail/en/samsung-electro-mechanics/CL10C680GB8NNNC/1276-2323-2-ND/3887981; Voltage: 50V; Price: 0; Device Package: 0603 (1608 Metric)
footprint CAP 0603/1608
pins: 1, 2

## CL10C680JB8NFNC
designator C?, comment 68pF
CAP CER 68PF 50V C0G/NP0 0603; Part Number: CL10C680JB8NFNC; Manufacturer: Samsung Electro-Mechanics; TemperatureRange: -55C ~ 125C; TemperatureCoefficient: C0G, NP0; Tolerance: 5%; Value: 68pF; PartId: 30267; Supplier 1: Digi-Key; Supplier Part Number 1: 1276-2325-2-ND; ComponentLink1Description: Datasheet; ComponentLink1URL: http://www.samsungsem.com/kr/support/product-search/mlcc/CL10C680JB8NFNC.jsp; ComponentLink2Description: Digi-Key Listing; ComponentLink2URL: https://www.digikey.com/product-detail/en/samsung-electro-mechanics/CL10C680JB8NFNC/1276-2325-2-ND/3887983; Voltage: 50V; Price: 0; Device Package: 0603 (1608 Metric)
footprint CAP 0603/1608
pins: 1, 2

## CL10C680JB8NNNC
designator C?, comment 68pF
CAP CER 68PF 50V NP0 0603; Part Number: CL10C680JB8NNNC; Manufacturer: Samsung Electro-Mechanics America, Inc.; TemperatureRange: -55C ~ 125C; TemperatureCoefficient: C0G, NP0; Tolerance: 5%; Value: 68pF; PartId: 5273; Supplier 1: Digi-Key; Supplier Part Number 1: 1276-1135-2-ND; ComponentLink1Description: Datasheet; ComponentLink1URL: http://www.samsungsem.com/kr/support/product-search/mlcc/CL10C680JB8NNNC.jsp; ComponentLink2Description: Digi-Key listing; ComponentLink2URL: http://digikey.com/product-detail/en/CL10C680JB8NNNC/1276-1135-2-ND/3886793; Voltage: 50V; Price: 0.0053; Type: -; Device Package: 0603 (1608 Metric)
footprint CAP 0603/1608
pins: 1, 2

## CL10C681FB8NNNC
designator C?, comment 680pF
CAP CER 680PF 50V NP0 0603; Part Number: CL10C681FB8NNNC; Manufacturer: Samsung Electro-Mechanics America, Inc.; TemperatureRange: -55C ~ 125C; TemperatureCoefficient: C0G, NP0; Tolerance: 1%; Value: 680pF; PartId: 5660; Supplier 1: Digi-Key; Supplier Part Number 1: 1276-2327-2-ND; ComponentLink1Description: Datasheet; ComponentLink1URL: http://media.digikey.com/pdf/Data%20Sheets/Samsung%20PDFs/CL10C681FB8NNNC_Spec.pdf; ComponentLink2Description: Digi-Key listing; ComponentLink2URL: http://digikey.com/product-detail/en/CL10C681FB8NNNC/1276-2327-2-ND/3887985; Voltage: 50V; Price: 0.1244; Type: -; Device Package: 0603 (1608 Metric)
footprint CAP 0603/1608
pins: 1, 2

## CL10C681JA8NNNC
designator C?, comment 680pF
CAP CER 680PF 25V NP0 0603; Part Number: CL10C681JA8NNNC; Manufacturer: Samsung Electro-Mechanics America, Inc.; TemperatureRange: -55C ~ 125C; TemperatureCoefficient: C0G, NP0; Tolerance: 5%; Value: 680pF; PartId: 5400; Supplier 1: Digi-Key; Supplier Part Number 1: 1276-2328-2-ND; ComponentLink1Description: Datasheet; ComponentLink1URL: http://www.samsungsem.com/kr/support/product-search/mlcc/CL10C681JA8NNNC.jsp; ComponentLink2Description: Digi-Key listing; ComponentLink2URL: http://digikey.com/product-detail/en/CL10C681JA8NNNC/1276-2328-2-ND/3887986; Voltage: 25V; Price: 0.0112; Type: -; Device Package: 0603 (1608 Metric)
footprint CAP 0603/1608
pins: 1, 2

## CL10C681JB8NFNC
designator C?, comment 680pF
CAP CER 680PF 50V NP0 0603; Part Number: CL10C681JB8NFNC; Manufacturer: Samsung Electro-Mechanics America, Inc.; TemperatureRange: -55C ~ 125C; TemperatureCoefficient: C0G, NP0; Tolerance: 5%; Value: 680pF; PartId: 5333; Supplier 1: Digi-Key; Supplier Part Number 1: 1276-2329-2-ND; ComponentLink1Description: Datasheet; ComponentLink1URL: http://www.samsungsem.com/kr/support/product-search/mlcc/CL10C681JB8NFNC.jsp; ComponentLink2Description: Digi-Key listing; ComponentLink2URL: http://digikey.com/product-detail/en/CL10C681JB8NFNC/1276-2329-2-ND/3887987; Voltage: 50V; Price: 0.0093; Type: -; Device Package: 0603 (1608 Metric)
footprint CAP 0603/1608
pins: 1, 2

## CL10C681JB8NNNC
designator C?, comment 680pF
CAP CER 680PF 50V C0G/NP0 0603; Part Number: CL10C681JB8NNNC; Manufacturer: Samsung Electro-Mechanics; TemperatureRange: -55C ~ 125C; TemperatureCoefficient: C0G, NP0; Tolerance: 5%; Value: 680pF; PartId: 30462; Supplier 1: Digi-Key; Supplier Part Number 1: 1276-1820-2-ND; ComponentLink1Description: Datasheet; ComponentLink1URL: http://www.samsungsem.com/kr/support/product-search/mlcc/CL10C681JB8NNNC.jsp; ComponentLink2Description: Digi-Key Listing; ComponentLink2URL: https://www.digikey.com/product-detail/en/samsung-electro-mechanics/CL10C681JB8NNNC/1276-1820-2-ND/3887478; Voltage: 50V; Price: 0; Device Package: 0603 (1608 Metric)
footprint CAP 0603/1608
pins: 1, 2

## CL10C751JB8NNNC
designator C?, comment 750pF
CAP CER 750PF 50V C0G/NP0 0603; Part Number: CL10C751JB8NNNC; Manufacturer: Samsung Electro-Mechanics; TemperatureRange: -55C ~ 125C; TemperatureCoefficient: C0G, NP0; Tolerance: 5%; Value: 750pF; PartId: 30717; Supplier 1: Digi-Key; Supplier Part Number 1: 1276-2336-2-ND; ComponentLink1Description: Datasheet; ComponentLink1URL: http://www.samsungsem.com/kr/support/product-search/mlcc/CL10C751JB8NNNC.jsp; ComponentLink2Description: Digi-Key Listing; ComponentLink2URL: https://www.digikey.com/product-detail/en/samsung-electro-mechanics/CL10C751JB8NNNC/1276-2336-2-ND/3887994; Voltage: 50V; Price: 0; Device Package: 0603 (1608 Metric)
footprint CAP 0603/1608
pins: 1, 2

## CL10C751JB81PNC
designator C?, comment 750pF
CAP CER 750PF 50V C0G/NP0 0603; Part Number: CL10C751JB81PNC; Manufacturer: Samsung Electro-Mechanics; TemperatureRange: -55C ~ 125C; TemperatureCoefficient: C0G, NP0; Tolerance: 5%; Value: 750pF; PartId: 30604; Supplier 1: Digi-Key; Supplier Part Number 1: 1276-6580-2-ND; ComponentLink1Description: Datasheet; ComponentLink1URL: http://www.samsungsem.com/kr/support/product-search/mlcc/CL10C751JB81PNC.jsp; ComponentLink2Description: Digi-Key Listing; ComponentLink2URL: https://www.digikey.com/product-detail/en/samsung-electro-mechanics/CL10C751JB81PNC/1276-6580-2-ND/5961064; Voltage: 50V; Price: 0; Device Package: 0603 (1608 Metric)
footprint CAP 0603/1608
pins: 1, 2

## CL10C820FB8NNNC
designator C?, comment 82pF
CAP CER 82PF 50V NP0 0603; Part Number: CL10C820FB8NNNC; Manufacturer: Samsung Electro-Mechanics America, Inc.; TemperatureRange: -55C ~ 125C; TemperatureCoefficient: C0G, NP0; Tolerance: 1%; Value: 82pF; PartId: 5614; Supplier 1: Digi-Key; Supplier Part Number 1: 1276-2340-2-ND; ComponentLink1Description: Datasheet; ComponentLink1URL: http://media.digikey.com/pdf/Data%20Sheets/Samsung%20PDFs/CL10C820FB8NNNC_Spec.pdf; ComponentLink2Description: Digi-Key listing; ComponentLink2URL: http://digikey.com/product-detail/en/CL10C820FB8NNNC/1276-2340-2-ND/3887998; Voltage: 50V; Price: 0.0342; Type: -; Device Package: 0603 (1608 Metric)
footprint CAP 0603/1608
pins: 1, 2

## CL10C820JB8NNNC
designator C?, comment 82pF
CAP CER 82PF 50V NP0 0603; Part Number: CL10C820JB8NNNC; Manufacturer: Samsung Electro-Mechanics America, Inc.; TemperatureRange: -55C ~ 125C; TemperatureCoefficient: C0G, NP0; Tolerance: 5%; Value: 82pF; PartId: 5275; Supplier 1: Digi-Key; Supplier Part Number 1: 1276-1242-2-ND; ComponentLink1Description: Datasheet; ComponentLink1URL: http://www.samsungsem.com/kr/support/product-search/mlcc/CL10C820JB8NNNC.jsp; ComponentLink2Description: Digi-Key listing; ComponentLink2URL: http://digikey.com/product-detail/en/CL10C820JB8NNNC/1276-1242-2-ND/3886900; Voltage: 50V; Price: 0.0053; Type: -; Device Package: 0603 (1608 Metric)
footprint CAP 0603/1608
pins: 1, 2

## CL10C820JB81PNC
designator C?, comment 82pF
CAP CER 82PF 50V C0G/NP0 0603; Part Number: CL10C820JB81PNC; Manufacturer: Samsung Electro-Mechanics; TemperatureRange: -55C ~ 125C; TemperatureCoefficient: C0G, NP0; Tolerance: 5%; Value: 82pF; PartId: 30385; Supplier 1: Digi-Key; Supplier Part Number 1: 1276-2342-2-ND; ComponentLink1Description: Datasheet; ComponentLink1URL: http://www.samsungsem.com/kr/support/product-search/mlcc/CL10C820JB81PNC.jsp; ComponentLink2Description: Digi-Key Listing; ComponentLink2URL: https://www.digikey.com/product-detail/en/samsung-electro-mechanics/CL10C820JB81PNC/1276-2342-2-ND/3888000; Voltage: 50V; Price: 0; Device Package: 0603 (1608 Metric)
footprint CAP 0603/1608
pins: 1, 2

## CL10C821JB8NNNC
designator C?, comment 820pF
CAP CER 820PF 50V NP0 0603; Part Number: CL10C821JB8NNNC; Manufacturer: Samsung Electro-Mechanics America, Inc.; TemperatureRange: -55C ~ 125C; TemperatureCoefficient: C0G, NP0; Tolerance: 5%; Value: 820pF; PartId: 5521; Supplier 1: Digi-Key; Supplier Part Number 1: 1276-2347-2-ND; ComponentLink1Description: Datasheet; ComponentLink1URL: http://www.samsungsem.com/kr/support/product-search/mlcc/CL10C821JB8NNNC.jsp; ComponentLink2Description: Digi-Key listing; ComponentLink2URL: http://digikey.com/product-detail/en/CL10C821JB8NNNC/1276-2347-2-ND/3888005; Voltage: 50V; Price: 0.0231; Type: -; Device Package: 0603 (1608 Metric)
footprint CAP 0603/1608
pins: 1, 2

## CL10C910JB8NNNC
designator C?, comment 91pF
CAP CER 91PF 50V NP0 0603; Part Number: CL10C910JB8NNNC; Manufacturer: Samsung Electro-Mechanics America, Inc.; TemperatureRange: -55C ~ 125C; TemperatureCoefficient: C0G, NP0; Tolerance: 5%; Value: 91pF; PartId: 5377; Supplier 1: Digi-Key; Supplier Part Number 1: 1276-2352-2-ND; ComponentLink1Description: Datasheet; ComponentLink1URL: http://www.samsungsem.com/kr/support/product-search/mlcc/CL10C910JB8NNNC.jsp; ComponentLink2Description: Digi-Key listing; ComponentLink2URL: http://digikey.com/product-detail/en/CL10C910JB8NNNC/1276-2352-2-ND/3888010; Voltage: 50V; Price: 0.0102; Type: -; Device Package: 0603 (1608 Metric)
footprint CAP 0603/1608
pins: 1, 2

## CL10CR47BB8NNNC
designator C?, comment 0.47pF
CAP CER 0.47PF 50V C0G/NP0 0603; Part Number: CL10CR47BB8NNNC; Manufacturer: Samsung Electro-Mechanics; TemperatureRange: -55C ~ 125C; TemperatureCoefficient: C0G, NP0; Tolerance: 0.1pF; Value: 0.47pF; PartId: 30207; Supplier 1: Digi-Key; Supplier Part Number 1: 1276-2355-2-ND; ComponentLink1Description: Datasheet; ComponentLink1URL: http://www.samsungsem.com/kr/support/product-search/mlcc/CL10CR47BB8NNNC.jsp; ComponentLink2Description: Digi-Key Listing; ComponentLink2URL: https://www.digikey.com/product-detail/en/samsung-electro-mechanics/CL10CR47BB8NNNC/1276-2355-2-ND/3888013; Voltage: 50V; Price: 0; Device Package: 0603 (1608 Metric)
footprint CAP 0603/1608
pins: 1, 2

## CL10CR56BB8NNNC
designator C?, comment 0.56pF
CAP CER 0.56PF 50V NP0 0603; Part Number: CL10CR56BB8NNNC; Manufacturer: Samsung Electro-Mechanics America, Inc.; TemperatureRange: -55C ~ 125C; TemperatureCoefficient: C0G, NP0; Tolerance: 0.1pF; Value: 0.56pF; PartId: 5277; Supplier 1: Digi-Key; Supplier Part Number 1: 1276-2356-2-ND; ComponentLink1Description: Datasheet; ComponentLink1URL: http://media.digikey.com/pdf/Data%20Sheets/Samsung%20PDFs/CL10CR56BB8NNNC_Spec.pdf; ComponentLink2Description: Digi-Key listing; ComponentLink2URL: http://digikey.com/product-detail/en/CL10CR56BB8NNNC/1276-2356-2-ND/3888014; Voltage: 50V; Price: 0.0054; Type: -; Device Package: 0603 (1608 Metric)
footprint CAP 0603/1608
pins: 1, 2

## CL10CR68BB8NNNC
designator C?, comment 0.68pF
CAP CER 0.68PF 50V NP0 0603; Part Number: CL10CR68BB8NNNC; Manufacturer: Samsung Electro-Mechanics America, Inc.; TemperatureRange: -55C ~ 125C; TemperatureCoefficient: C0G, NP0; Tolerance: 0.1pF; Value: 0.68pF; PartId: 5282; Supplier 1: Digi-Key; Supplier Part Number 1: 1276-2357-2-ND; ComponentLink1Description: Datasheet; ComponentLink1URL: http://media.digikey.com/pdf/Data%20Sheets/Samsung%20PDFs/CL10CR68BB8NNNC_Spec.pdf; ComponentLink2Description: Digi-Key listing; ComponentLink2URL: http://digikey.com/product-detail/en/CL10CR68BB8NNNC/1276-2357-2-ND/3888015; Voltage: 50V; Price: 0.0068; Type: -; Device Package: 0603 (1608 Metric)
footprint CAP 0603/1608
pins: 1, 2

## CL10CR75BB8NNNC
designator C?, comment 0.75pF
CAP CER 0.75PF 50V NP0 0603; Part Number: CL10CR75BB8NNNC; Manufacturer: Samsung Electro-Mechanics America, Inc.; TemperatureRange: -55C ~ 125C; TemperatureCoefficient: C0G, NP0; Tolerance: 0.1pF; Value: 0.75pF; PartId: 5258; Supplier 1: Digi-Key; Supplier Part Number 1: 1276-2358-2-ND; ComponentLink1Description: Datasheet; ComponentLink1URL: http://media.digikey.com/pdf/Data%20Sheets/Samsung%20PDFs/CL10CR75BB8NNNC_Spec.pdf; ComponentLink2Description: Digi-Key listing; ComponentLink2URL: http://digikey.com/product-detail/en/CL10CR75BB8NNNC/1276-2358-2-ND/3888016; Voltage: 50V; Price: 0.0035; Type: -; Device Package: 0603 (1608 Metric)
footprint CAP 0603/1608
pins: 1, 2